# Altium schematic symbol library ST_Giro.SchLib: 1 symbol
Pins are listed as number, name and electrical type; pins without a type are passive.

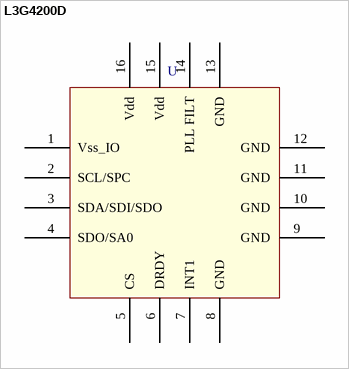
[diagram p0: symbol L3G4200D]

## L3G4200D
designator U  (value not drawn)
Giro 3 axis; RS: 721-2483; Fabricante: ST; Módelo: L3G4200D; Distribuidor: RS
footprint L3G4200D (Giro 3-Axis)
pins: 1 Vss_IO, 2 SCL/SPC, 3 SDA/SDI/SDO, 4 SDO/SA0, 5 CS, 6 DRDY, 7 INT1, 8 GND, 9 GND, 10 GND, 11 GND, 12 GND, 13 GND, 14 PLL FILT, 15 Vdd, 16 Vdd